# EAGLE library part STM32F100C4 (library masterkit)
STM32F100C4
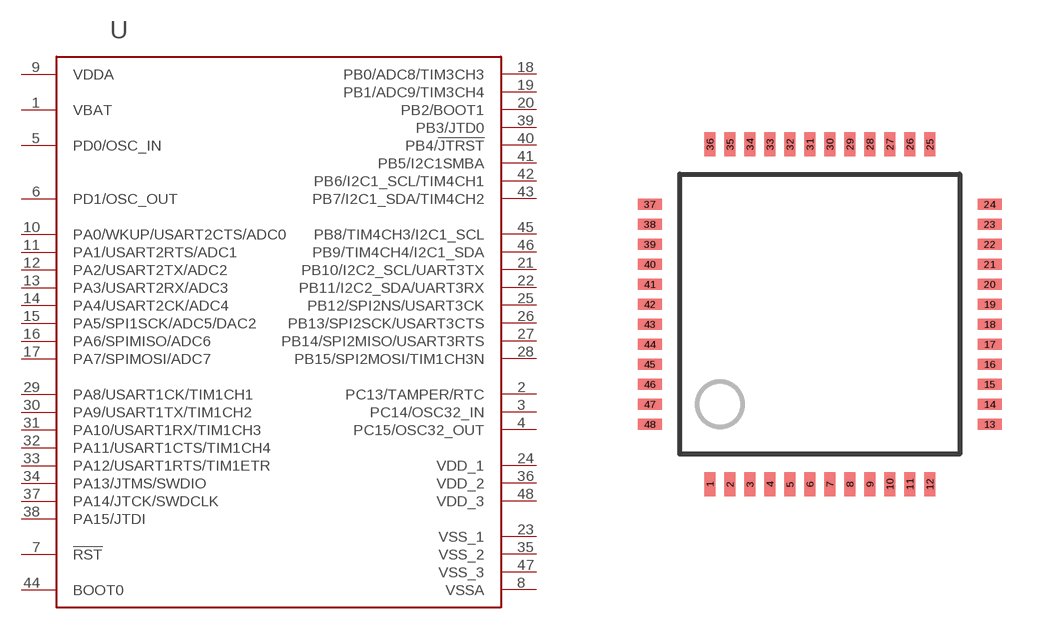
[diagram p2: symbol with the pads of LQFP48; footprint LQFP48]

Designator prefix -

## STM32F100C4  [LQFP48]
1  VBAT
2  PC13/TAMPER/RTC
3  PC14/OSC32_IN
4  PC15/OSC32_OUT
5  PD0/OSC_IN
6  PD1/OSC_OUT
7  !RST
8  VSSA
9  VDDA
10  PA0/WKUP/USART2CTS/ADC0
11  PA1/USART2RTS/ADC1
12  PA2/USART2TX/ADC2
13  PA3/USART2RX/ADC3
14  PA4/USART2CK/ADC4
15  PA5/SPI1SCK/ADC5/DAC2
16  PA6/SPIMISO/ADC6
17  PA7/SPIMOSI/ADC7
18  PB0/ADC8/TIM3CH3
19  PB1/ADC9/TIM3CH4
20  PB2/BOOT1
21  PB10/I2C2_SCL/UART3TX
22  PB11/I2C2_SDA/UART3RX
23  VSS_1
24  VDD_1
25  PB12/SPI2NS/USART3CK
26  PB13/SPI2SCK/USART3CTS
27  PB14/SPI2MISO/USART3RTS
28  PB15/SPI2MOSI/TIM1CH3N
29  PA8/USART1CK/TIM1CH1
30  PA9/USART1TX/TIM1CH2
31  PA10/USART1RX/TIM1CH3
32  PA11/USART1CTS/TIM1CH4
33  PA12/USART1RTS/TIM1ETR
34  PA13/JTMS/SWDIO
35  VSS_2
36  VDD_2
37  PA14/JTCK/SWDCLK
38  PA15/JTDI
39  PB3/JTD0
40  PB4/!JTRST
41  PB5/I2C1SMBA
42  PB6/I2C1_SCL/TIM4CH1
43  PB7/I2C1_SDA/TIM4CH2
44  BOOT0
45  PB8/TIM4CH3/I2C1_SCL
46  PB9/TIM4CH4/I2C1_SDA
47  VSS_3
48  VDD_3

## Footprint LQFP48 (pad centres in mm)
smd 0.27 x 0.61: 1 -2.75,-4.25; 2 -2.25,-4.25; 3 -1.75,-4.25; 4 -1.25,-4.25; 5 -0.75,-4.25; 6 -0.25,-4.25; 7 0.25,-4.25; 8 0.75,-4.25; 9 1.25,-4.25; 10 1.75,-4.25; 11 2.25,-4.25; 12 2.75,-4.25; 25 2.75,4.25; 26 2.25,4.25; 27 1.75,4.25; 28 1.25,4.25; 29 0.75,4.25; 30 0.25,4.25; 31 -0.25,4.25; 32 -0.75,4.25; 33 -1.25,4.25; 34 -1.75,4.25; 35 -2.25,4.25; 36 -2.75,4.25
smd 0.61 x 0.27: 13 4.25,-2.75; 14 4.25,-2.25; 15 4.25,-1.75; 16 4.25,-1.25; 17 4.25,-0.75; 18 4.25,-0.25; 19 4.25,0.25; 20 4.25,0.75; 21 4.25,1.25; 22 4.25,1.75; 23 4.25,2.25; 24 4.25,2.75; 37 -4.25,2.75; 38 -4.25,2.25; 39 -4.25,1.75; 40 -4.25,1.25; 41 -4.25,0.75; 42 -4.25,0.25; 43 -4.25,-0.25; 44 -4.25,-0.75; 45 -4.25,-1.25; 46 -4.25,-1.75; 47 -4.25,-2.25; 48 -4.25,-2.75